# EAGLE library part LTC3411 (library PowerProducts)
1.25A, 4MHz, Synchronous Step-Down DC/DC Converter
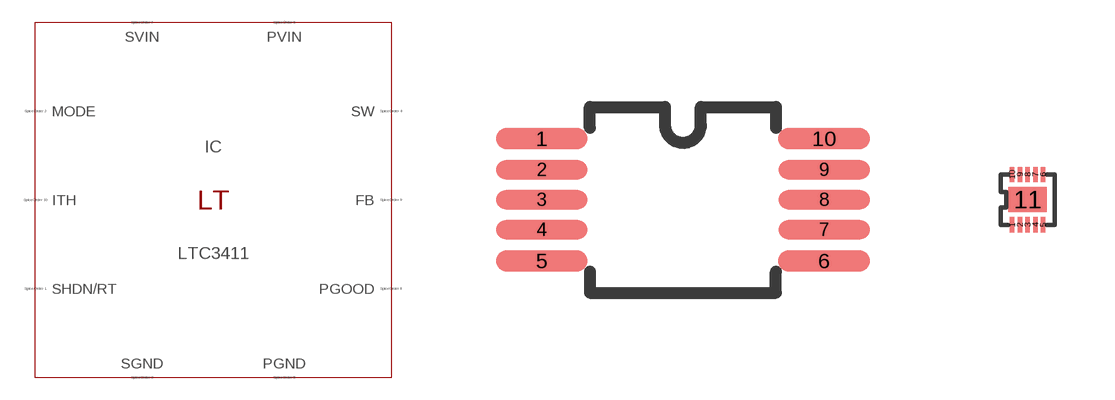
[diagram p169: symbol with the pads of MSOP10(MS); footprints MSOP10(MS), DFN10(DD)]

Designator prefix IC

## LTC3411MS (SPICEMODEL: LTC3411.sub; SPICEPREFIX: X; VALUE2: LTC3411)  [MSOP10(MS)]
1  SHDN/RT  pas
2  MODE  pas
3  SGND  pas
4  SW  pas
5  PGND  pas
6  PVIN  pas
7  SVIN  pas
8  PGOOD  pas
9  FB  pas
10  ITH  pas

## LTC3411 (SPICEMODEL: LTC3411.sub; SPICEPREFIX: X; VALUE2: LTC3411)  [DFN10(DD)]
1  SHDN/RT  pas
2  MODE  pas
3  SGND  pas
4  SW  pas
5  PGND  pas
6  PVIN  pas
7  SVIN  pas
8  PGOOD  pas
9  FB  pas
10  ITH  pas
11  SGND  pas

## Footprint MSOP10(MS) (pad centres in mm)
Package generated from: MSOP10(MS).asc (!PADS-POWERPCB-V5.0-BASIC! DESIGN DATABASE ASCII FILE 1.0) with :import-pads-powerpcb-v5.ulp Version 1.0.1 at 04.10.2012 14:11:19
smd 2.295 x 0.54: 1 -3.529,1.53; 5 -3.529,-1.53; 6 3.529,-1.53; 10 3.529,1.53
smd 2.295 x 0.48: 2 -3.529,0.75; 3 -3.529,0; 4 -3.529,-0.75; 7 3.529,-0.75; 8 3.529,0; 9 3.529,0.75

## Footprint DFN10(DD) (pad centres in mm)
Package generated from: DFN10(DD).asc (!PADS-POWERPCB-V9.3-BASIC! DESIGN DATABASE ASCII FILE 1.0) with :import-pads-powerpcb-v5.ulp Version 1.0.1 at 04.10.2012 14:11:16
smd 0.116 x 0.387: 1 -0.387,-0.629; 2 -0.194,-0.629; 3 0,-0.629; 4 0.194,-0.629; 5 0.387,-0.629; 6 0.387,0.629; 7 0.194,0.629; 8 0,0.629; 9 -0.194,0.629; 10 -0.387,0.629
smd 0.968 x 0.629: 11 0,0